# Altium schematic symbol library DPDT1.Schlib: 1 symbol
Pins are listed as number, name and electrical type; pins without a type are passive.

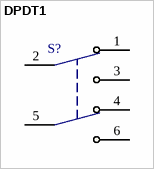
[diagram p0: symbol DPDT1]

## DPDT1
designator S?
DPDT
pins: 1, 2, 3, 4, 5, 6